# EAGLE library part PIC16F628A (library 1_domaci)
FLASH-Based 8-Bit CMOS Microcontroller Source: http://ww1.microchip.com/downloads/en/DeviceDoc/40300C.pdf
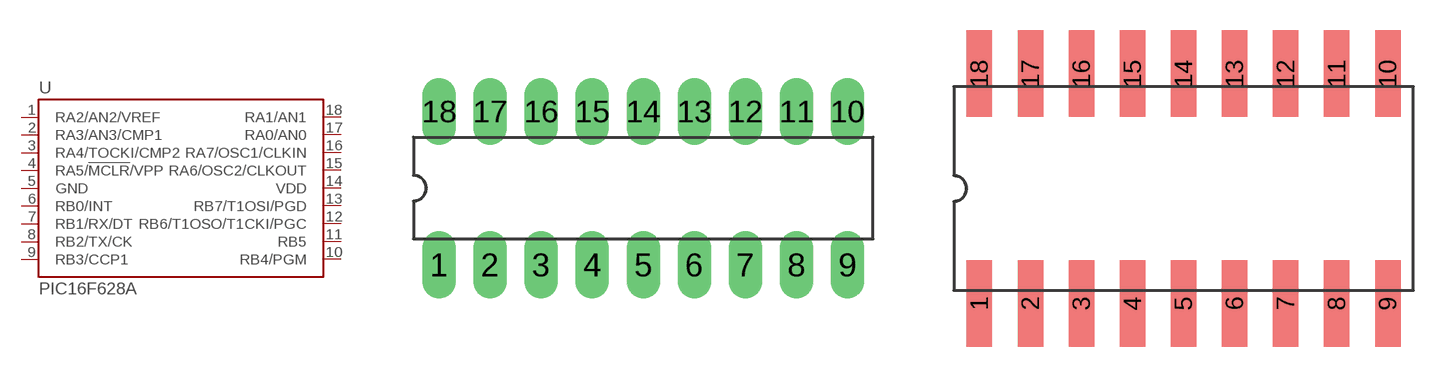
[diagram p1: symbol with the pads of DIL18; footprints DIL18, DIL18-SMD]

Designator prefix U

## PIC16F628A7P (MF: MICROCHIP; MPN: PIC16F627-04/P; OC_FARNELL: 1084298; OC_NEWARK: 23C4960), PIC16F628A8P (MF: MICROCHIP; MPN: PIC16F628-04I/P; OC_FARNELL: 9760407; OC_NEWARK: 19C7272)  [DIL18]
1  RA2/AN2/VREF
2  RA3/AN3/CMP1
3  RA4/TOCKI/CMP2
4  RA5/!MCLR!/VPP
5  GND  pwr
6  RB0/INT
7  RB1/RX/DT
8  RB2/TX/CK
9  RB3/CCP1
10  RB4/PGM
11  RB5
12  RB6/T1OSO/T1CKI/PGC
13  RB7/T1OSI/PGD
14  VDD  pwr
15  RA6/OSC2/CLKOUT
16  RA7/OSC1/CLKIN
17  RA0/AN0
18  RA1/AN1

## PIC16F628A'SMD'  [DIL18-SMD]
Pads as for DIL18

## Footprint DIL18 (pad centres in mm)
Dual In Line package type P
drill 0.813 pad 1.676 long: 1 -10.16,-3.81; 2 -7.62,-3.81; 3 -5.08,-3.81; 4 -2.54,-3.81; 5 0,-3.81; 6 2.54,-3.81; 7 5.08,-3.81; 8 7.62,-3.81; 9 10.16,-3.81; 10 10.16,3.81; 11 7.62,3.81; 12 5.08,3.81; 13 2.54,3.81; 14 0,3.81; 15 -2.54,3.81; 16 -5.08,3.81; 17 -7.62,3.81; 18 -10.16,3.81

## Footprint DIL18-SMD (pad centres in mm)
Dual In Line package type P
smd 1.27 x 4.318: 1 -10.16,-5.715; 2 -7.62,-5.715; 3 -5.08,-5.715; 4 -2.54,-5.715; 5 0,-5.715; 6 2.54,-5.715; 7 5.08,-5.715; 8 7.62,-5.715; 9 10.16,-5.715; 10 10.16,5.715; 11 7.62,5.715; 12 5.08,5.715; 13 2.54,5.715; 14 0,5.715; 15 -2.54,5.715; 16 -5.08,5.715; 17 -7.62,5.715; 18 -10.16,5.715